# Altium footprint library PcbLib1.PcbLib: 22 footprints (part 1 of 2)
Each footprint in its own frame and in the unit in brackets; x right, y up, seen from the top. Pads: shape width x height; smd on the part's side, far side on the other; paste and mask are expansions set on the pad; w line width, h text height; cw(c..) or ccw(c..) is an arc to the next point about the centre after c.
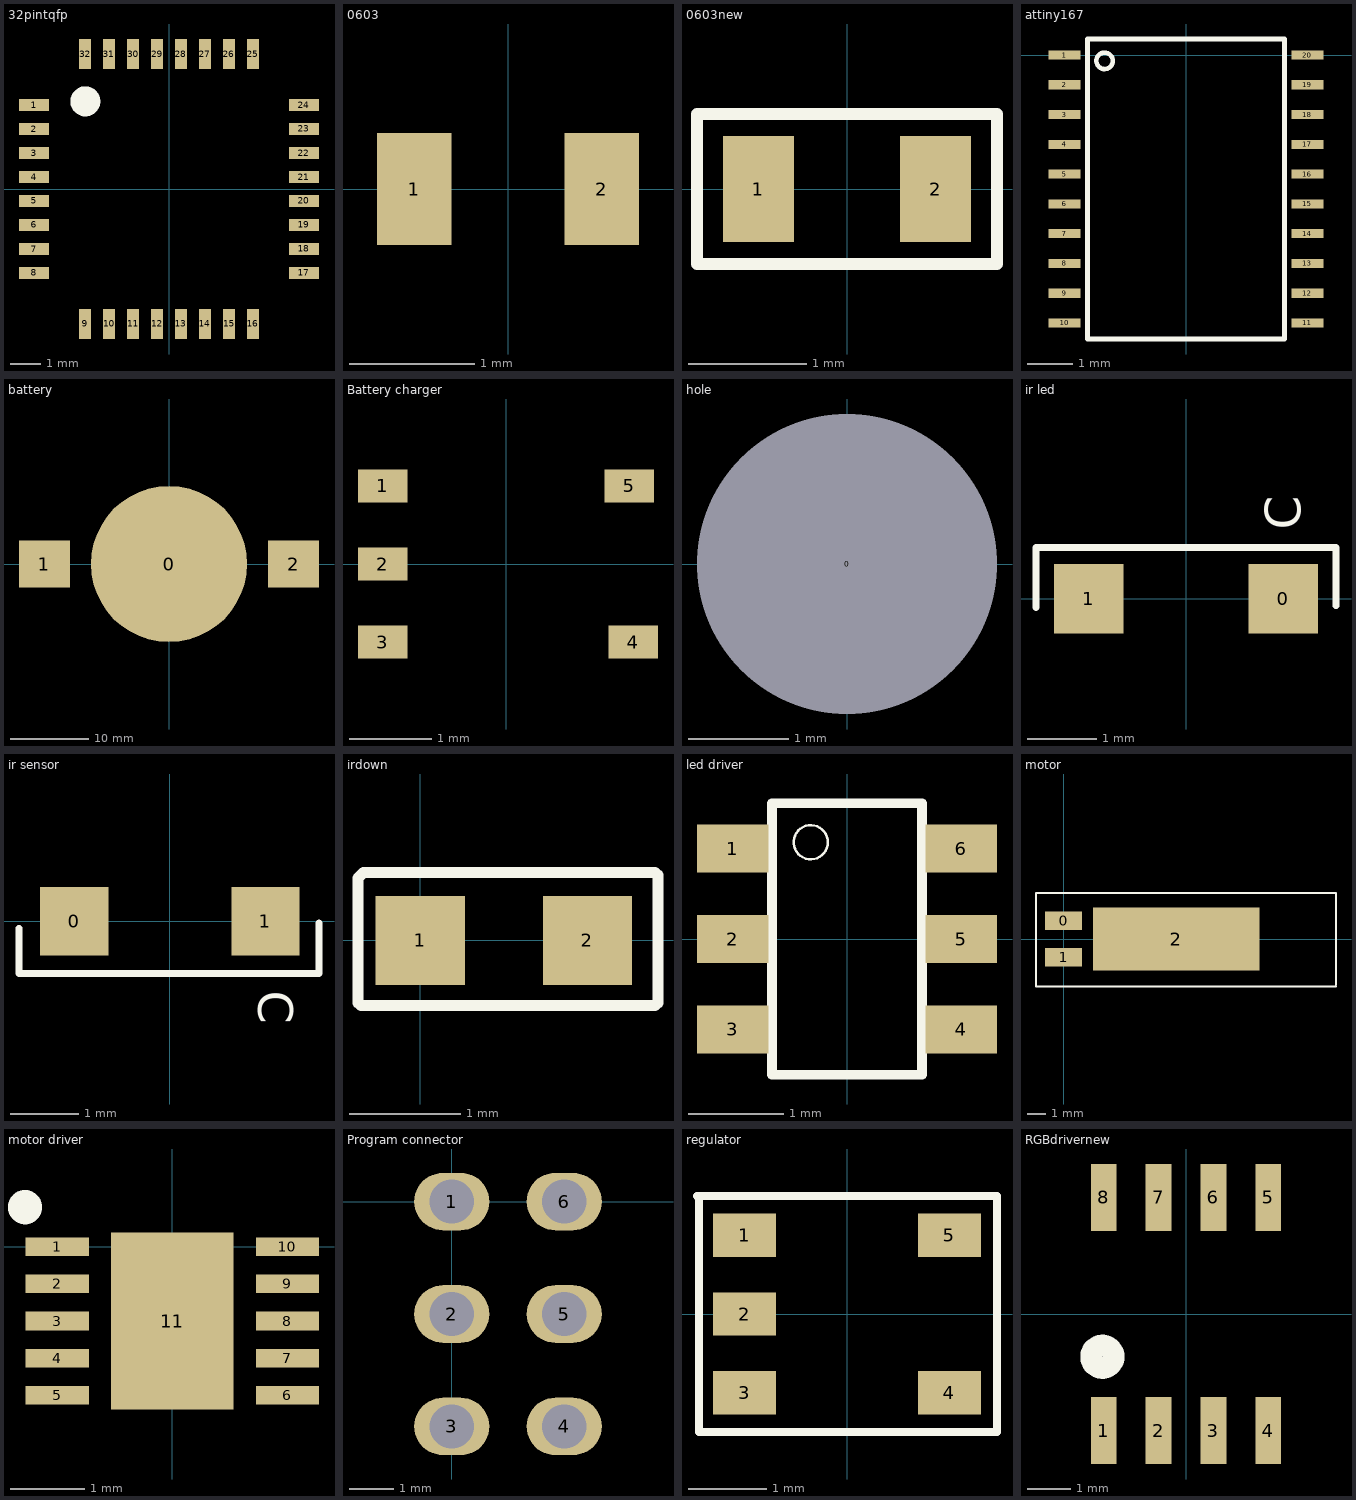
[diagram p0: the footprints below, top view; thin cyan lines are the x and y axes]

## 32pintqfp [mm]
pads (32):
  rect 1x0.4 smd: 1(-4.5,2.8) 2(-4.5,2) 3(-4.5,1.2) 4(-4.5,0.4) 5(-4.5,-0.4) 6(-4.5,-1.2) 7(-4.5,-2) 8(-4.5,-2.8) 17(4.5,-2.8) 18(4.5,-2) 19(4.5,-1.2) 20(4.5,-0.4) 21(4.5,0.4) 22(4.5,1.2) 23(4.5,2) 24(4.5,2.8)
  rect 0.4x1 smd: 9(-2.8,-4.5) 10(-2,-4.5) 11(-1.2,-4.5) 12(-0.4,-4.5) 13(0.4,-4.5) 14(1.2,-4.5) 15(2,-4.5) 16(2.8,-4.5) 25(2.8,4.5) 26(2,4.5) 27(1.2,4.5) 28(0.4,4.5) 29(-0.4,4.5) 30(-1.2,4.5) 31(-2,4.5) 32(-2.8,4.5)
Top Overlay:
  circle w0.5: c-2.79,2.921 r0.25

## 0603 [mm]
pads (2):
  rect 0.6x0.9 smd: 1(-0.75,0) 2(0.75,0)

## 0603new [mm]
pads (2):
  rect 0.6x0.9 smd: 1(-0.75,0) 2(0.75,0)
Top Overlay:
  lines w0.1: -1.27,-0.635 -1.27,0.635 1.27,0.635 1.27,-0.635 -1.27,-0.635

## attiny167 [mm]
pads (20):
  rect 0.7x0.2 smd: 1(-2.65,0) 2(-2.65,-0.65) 3(-2.65,-1.3) 4(-2.65,-1.95) 5(-2.65,-2.6) 6(-2.65,-3.25) 7(-2.65,-3.9) 8(-2.65,-4.55) 9(-2.65,-5.2) 10(-2.65,-5.85) 11(2.65,-5.85) 12(2.65,-5.2) 13(2.65,-4.55) 14(2.65,-3.9) 15(2.65,-3.25) 16(2.65,-2.6) 17(2.65,-1.95) 18(2.65,-1.3) 19(2.65,-0.65) 20(2.65,0)
Top Overlay:
  circle w0.1: c-1.778,-0.127 r0.18
  lines w0.1: -2.15,-6.2 2.15,-6.2 2.15,0.35 -2.15,0.35 -2.15,-6.2

## battery [mm]
pads (3):
  round 20 smd paste-20: 0(0,0)
  rect 6.5x6 smd: 1(-15.95,0) 2(15.95,0)

## Battery charger [mm]
pads (5):
  rect 0.6x0.4 smd: 1(-1.5,0.95) 2(-1.5,0) 3(-1.5,-0.95) 4(1.548,-0.95) 5(1.5,0.95)

## hole [mm]
pads (1):
  rect 0.1x0.1 hole 3: 0(0,0)

## ir led [mm]
pads (2):
  rect 1x1 smd: 0(1.4,0) 1(-1.4,0)
Top Overlay:
  lines w0.1: -2.159,-0.127 -2.159,0.737 2.159,0.737 2.159,-0.102
  text "C" at 1.651,0.991 h0.51

## ir sensor [mm]
pads (2):
  rect 1x1 smd: 0(-1.4,0) 1(1.4,0)
Top Overlay:
  lines w0.1: -2.21,-0.102 -2.21,-0.762 2.184,-0.762 2.184,-0.025
  text "C" at 1.295,-1.016 h0.51

## irdown [mm]
pads (2):
  rect 0.8x0.8 smd: 1(0,0) 2(1.5,0)
Top Overlay:
  lines w0.1: -0.559,-0.559 -0.559,0.559 -0.508,0.61 2.108,0.61 2.134,0.584 2.134,-0.559 2.108,-0.584 -0.533,-0.584 -0.559,-0.559

## led driver [mm]
pads (6):
  rect 0.75x0.5 smd: 1(-1.2,0.95) 2(-1.2,0) 3(-1.2,-0.95) 4(1.2,-0.95) 5(1.2,0) 6(1.2,0.95)
Top Overlay:
  circle w0.025: c-0.381,1.016 r0.18
  lines w0.1: -0.787,-1.425 -0.787,1.425 0.787,1.425 0.787,-1.425 -0.787,-1.425

## motor [mm]
pads (3):
  rect 2x1 smd: 0(0,1) 1(0,-1)
  rect 9x3.4 smd: 2(6.1,0)
Top Overlay:
  lines w0.1: 14.75,-2.58 -1.5,-2.58 -1.5,2.5 14.75,2.5 14.75,-2.5

## motor driver [mm]
pads (11):
  rect 0.85x0.25 smd: 1(-1.55,0) 2(-1.55,-0.5) 3(-1.55,-1) 4(-1.55,-1.5) 5(-1.55,-2) 6(1.55,-2) 7(1.55,-1.5) 8(1.55,-1) 9(1.55,-0.5) 10(1.55,0)
  rect 1.65x2.38 smd: 11(0,-1)
Top Overlay:
  circle w0.3: c-1.985,0.533 r0.08

## Program connector [mm]
pads (6):
  oval 1.7x1.3 hole 1: 1(0,0) 2(0,-2.54) 3(0,-5.08) 4(2.54,-5.08) 5(2.54,-2.54) 6(2.54,0)

## regulator [mm]
pads (5):
  rect 0.8x0.55 smd: 1(-1.3,1) 2(-1.3,0) 3(-1.3,-1) 4(1.3,-1) 5(1.3,1)
Top Overlay:
  lines w0.1: -1.905,1.499 -1.88,1.473 -1.88,-1.499 1.905,-1.499 1.905,1.499 -1.905,1.499

## RGBdrivernew [mm]
pads (8):
  rect 0.6x1.55 smd: 1(-1.905,-2.7) 2(-0.635,-2.7) 3(0.635,-2.7) 4(1.905,-2.7) 5(1.905,2.7) 6(0.635,2.7) 7(-0.635,2.7) 8(-1.905,2.7)
Top Overlay:
  circle w0.5: c-1.938,-0.991 r0.262